# EAGLE library part 24CXX (library lib_stankus)
24CXX serial EEPROM
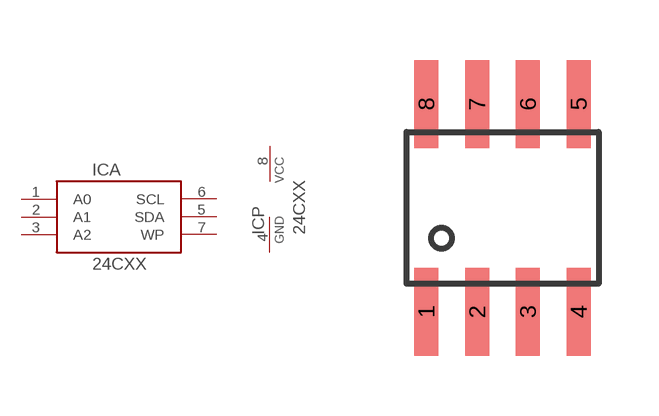
[diagram p12: symbol with the pads of SOIC8; footprint SOIC8]

Designator prefix IC; gates A=24CXX_IO P=24CXX_PWR

## 24CXX-SOIC8  [SOIC8]
1  A:A0  pas
2  A:A1  pas
3  A:A2  pas
4  P:GND  pas
5  A:SDA  pas
6  A:SCL  pas
7  A:WP  pas
8  P:VCC  pas

## Footprint SOIC8 (pad centres in mm)
SOIC8
smd 0.6 x 2.2: 1 -1.905,-2.6; 2 -0.635,-2.6; 3 0.635,-2.6; 4 1.905,-2.6; 5 1.905,2.6; 6 0.635,2.6; 7 -0.635,2.6; 8 -1.905,2.6